# Altium schematic symbol library con-amphenol.SCHLIB: 12 symbols
Pins are listed as number, name and electrical type; pins without a type are passive.

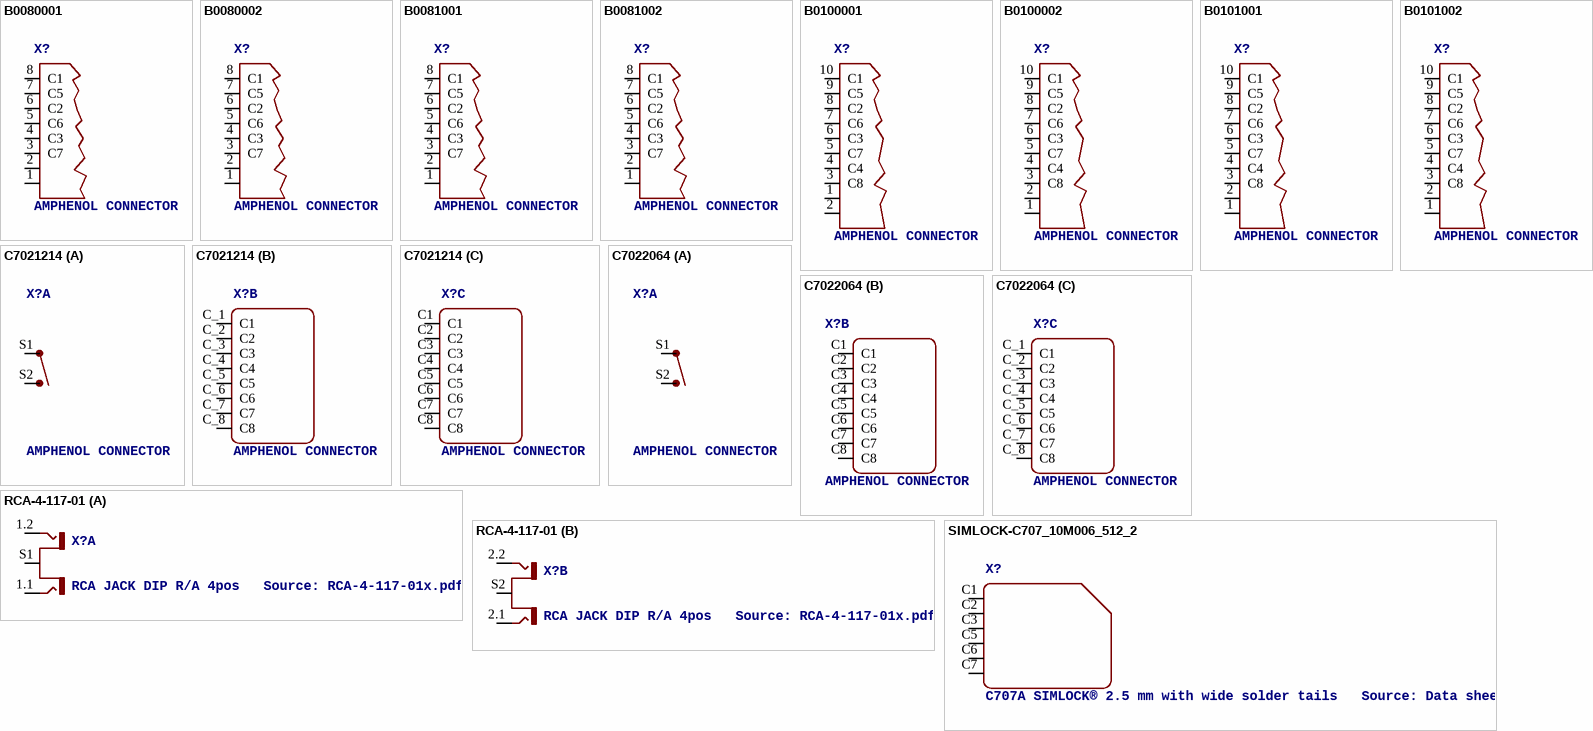
[diagram p0: symbols B0080001 to SIMLOCK-C707_10M006_512_2]

## B0080001
designator X?, comment AMPHENOL CONNECTOR
OC_FARNELL: unknown; OC_NEWARK: unknown
footprint B0080001
pins: 1 S1, 2 S2, 3 C7, 4 C3, 5 C6, 6 C2, 7 C5, 8 C1

## B0080002
designator X?, comment AMPHENOL CONNECTOR
MPN: C146 10B008 000 2; MF: AMPHENOL; OC_FARNELL: unknown; OC_NEWARK: 03H9242
footprint B0080002
pins: 1 S1, 2 S2, 3 C7, 4 C3, 5 C6, 6 C2, 7 C5, 8 C1

## B0081001
designator X?, comment AMPHENOL CONNECTOR
MPN: C00710B0081001; MF: AMPHENOL; OC_FARNELL: unknown; OC_NEWARK: 69H0124
footprint B0081001
pins: 1 S1, 2 S2, 3 C7, 4 C3, 5 C6, 6 C2, 7 C5, 8 C1

## B0081002
designator X?, comment AMPHENOL CONNECTOR
OC_FARNELL: unknown; OC_NEWARK: unknown
footprint B0081002
pins: 1 S1, 2 S2, 3 C7, 4 C3, 5 C6, 6 C2, 7 C5, 8 C1

## B0100001
designator X?, comment AMPHENOL CONNECTOR
MPN: C00710B0100001; MF: AMPHENOL; OC_FARNELL: unknown; OC_NEWARK: 07C1371
footprint B0100001
pins: 1 S2, 2 S1, 3 C8, 4 C4, 5 C7, 6 C3, 7 C6, 8 C2, 9 C5, 10 C1

## B0100002
designator X?, comment AMPHENOL CONNECTOR
OC_FARNELL: unknown; OC_NEWARK: unknown
footprint B0100002
pins: 1 S1, 2 S2, 3 C8, 4 C4, 5 C7, 6 C3, 7 C6, 8 C2, 9 C5, 10 C1

## B0101001
designator X?, comment AMPHENOL CONNECTOR
MPN: C00710B0101001; MF: AMPHENOL; OC_FARNELL: unknown; OC_NEWARK: 07C1376
footprint B0101001
pins: 1 S1, 2 S2, 3 C8, 4 C4, 5 C7, 6 C3, 7 C6, 8 C2, 9 C5, 10 C1

## B0101002
designator X?, comment AMPHENOL CONNECTOR
MPN: C00710B0101002; MF: AMPHENOL; OC_FARNELL: unknown; OC_NEWARK: 07C1377
footprint B0101002
pins: 1 S1, 2 S2, 3 C8, 4 C4, 5 C7, 6 C3, 7 C6, 8 C2, 9 C5, 10 C1

## C7021214
designator X?, comment AMPHENOL CONNECTOR
OC_FARNELL: unknown; OC_NEWARK: unknown
footprint C7021214
part A pins: S1, S2
part B pins: C_1 C1, C_2 C2, C_3 C3, C_4 C4, C_5 C5, C_6 C6, C_7 C7, C_8 C8
part C pins: C1, C2, C3, C4, C5, C6, C7, C8

## C7022064
designator X?, comment AMPHENOL CONNECTOR
OC_FARNELL: unknown; OC_NEWARK: unknown
footprint C7022064
part A pins: S1, S2
part B pins: C1, C2, C3, C4, C5, C6, C7, C8
part C pins: C_1 C1, C_2 C2, C_3 C3, C_4 C4, C_5 C5, C_6 C6, C_7 C7, C_8 C8

## RCA-4-117-01
designator X?, comment RCA JACK DIP R/A 4pos   Source: RCA-4-117-01x.pdf
footprint RCA-4-117-01
part A pins: 1.1 T1, 1.2 T2, S1 S
part B pins: 2.1 T1, 2.2 T2, S2 S

## SIMLOCK-C707_10M006_512_2
designator X?, comment C707A SIMLOCK® 2.5 mm with wide solder tails   Source: Data sheet
OC_FARNELL: unknown; OC_NEWARK: unknown
footprint C707_10M006_512_2
pins: C1 1, C2 2, C3 3, C5 4, C6 5, C7 6